# Altium footprint library WR-TBL_Spring Clamp_5.08mm.PcbLib: 47 footprints (part 2 of 3)
Each footprint in its own frame and in the unit in brackets; x right, y up, seen from the top. Pads: shape width x height; smd on the part's side, far side on the other; paste and mask are expansions set on the pad; w line width, h text height; cw(c..) or ccw(c..) is an arc to the next point about the centre after c.
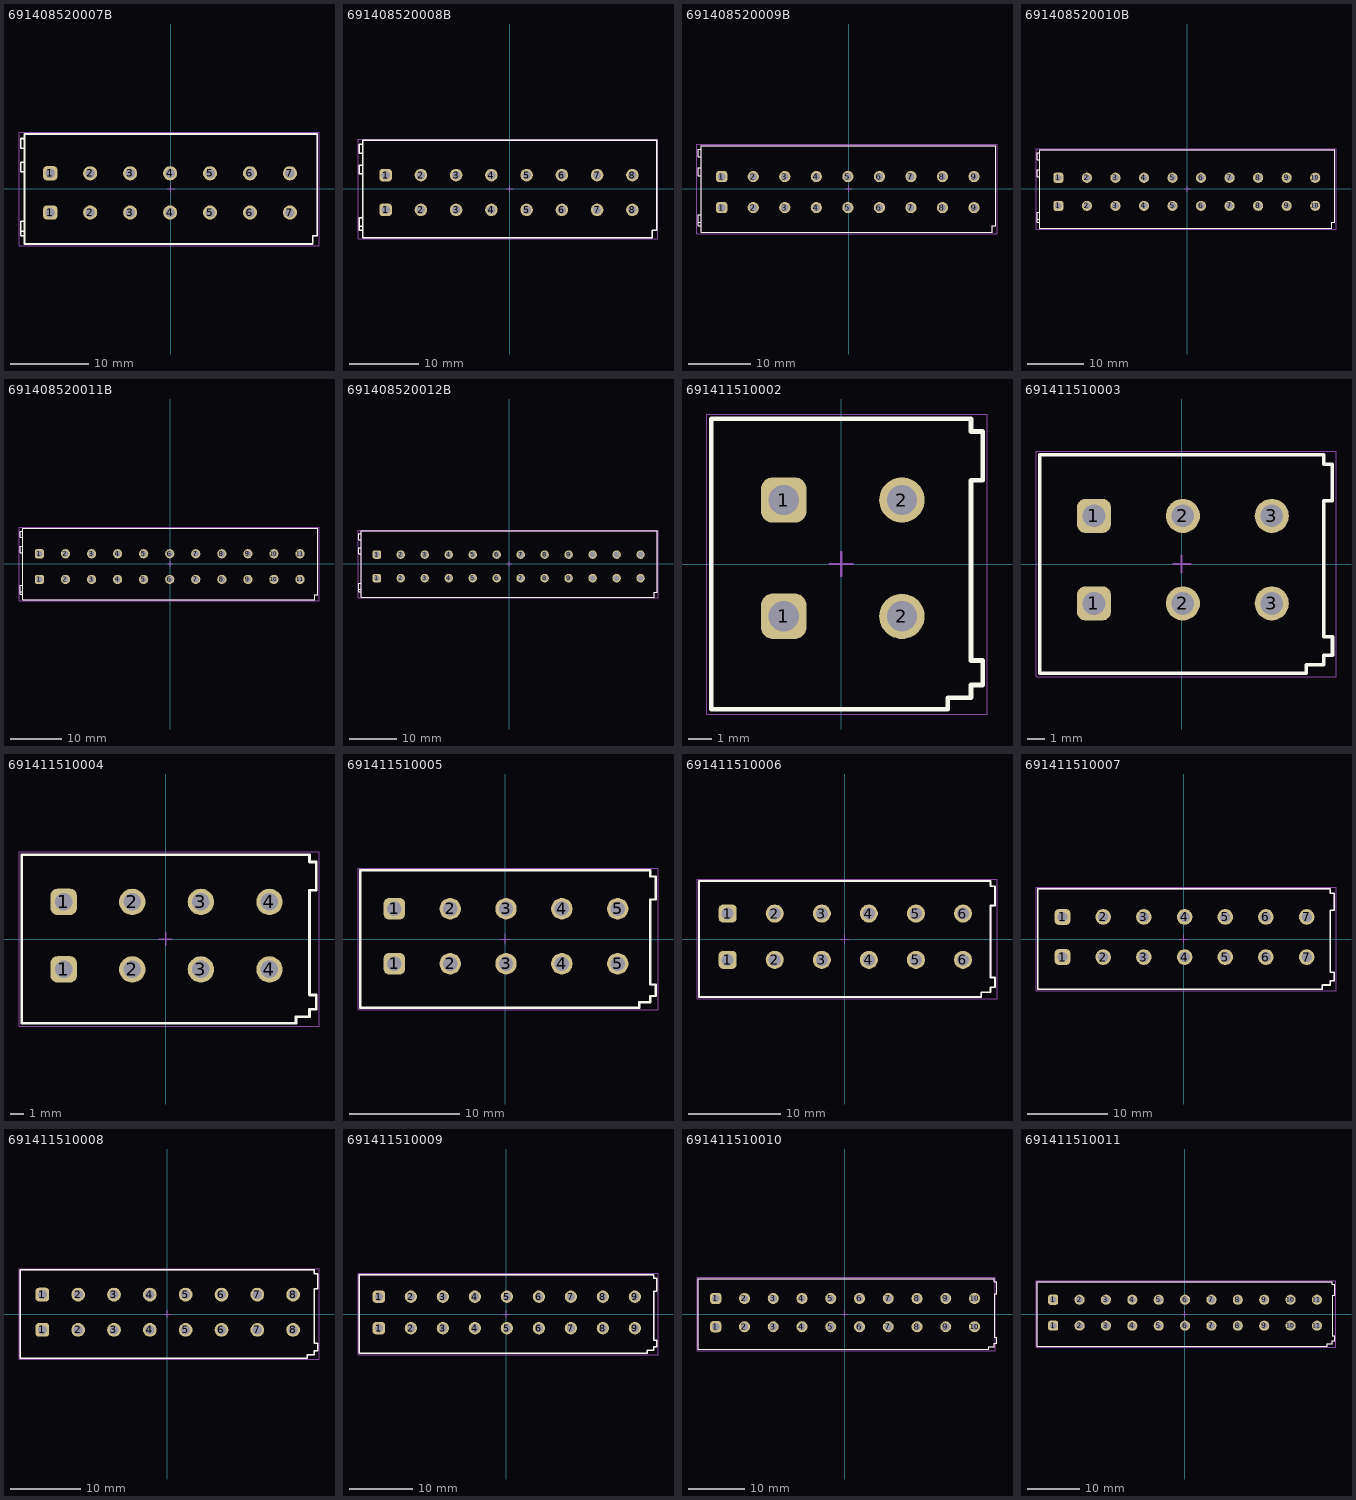
[diagram p1: the footprints below, top view; thin cyan lines are the x and y axes]

## 691408520007B [mm] "Terminal block -  Screwless Push In, 7p"
height 13.5
pads (14):
  rrect50% 1.8x1.8 hole 1.2: 1(-15.35,-3) 1(-15.35,2)
  round 1.8 hole 1.2: 2(-10.27,-3) 2(-10.27,2) 3(-5.19,-3) 3(-5.19,2) 4(-0.11,-3) 4(-0.11,2) 5(4.97,-3) 5(4.97,2) 6(10.05,-3) 6(10.05,2) 7(15.13,-3) 7(15.13,2)
Top Overlay:
  lines w0.2: -19.13,-5.37 -18.63,-5.37 ; -18.63,-5.92 -19.13,-5.92 -19.13,-4.12 -18.63,-4.12 ; -18.63,2.17 -19.13,2.17 -19.13,3.42 -18.63,3.42 ; -18.63,5.17 -19.13,5.17 -19.13,6.42 -18.63,6.42 ; -18.63,-7 -18.63,7 18.63,7 18.63,-5.95 18.03,-5.95 18.03,-7 -18.63,-7
Top Assembly:
  lines w0.1: -19.13,-5.37 -18.63,-5.37 ; -18.63,-5.92 -19.13,-5.92 -19.13,-4.12 -18.63,-4.12 ; -18.63,2.17 -19.13,2.17 -19.13,3.42 -18.63,3.42 ; -18.63,5.17 -19.13,5.17 -19.13,6.42 -18.63,6.42 ; -18.63,-7 -18.63,7 18.63,7 18.63,-5.95 18.03,-5.95 18.03,-7 -18.63,-7
Top Designator:
  text ".Designator" at -3.647,-0.357 h1
Top 3D Body:
  lines w0.1: -19.13,-5.37 -18.63,-5.37 ; -18.63,-5.92 -19.13,-5.92 -19.13,-4.12 -18.63,-4.12 ; -18.63,2.17 -19.13,2.17 -19.13,3.42 -18.63,3.42 ; -18.63,5.17 -19.13,5.17 -19.13,6.42 -18.63,6.42 ; -18.63,-7 18.03,-7 18.03,-5.95 18.63,-5.95 18.63,7 -18.63,7 -18.63,-7
Top Courtyard:
  lines w0.05: -19.33,-7.2 18.83,-7.2 18.83,7.2 -19.33,7.2 -19.33,-7.2
Top Component Center:
  lines w0.1: -0.5,0 0.5,0 ; 0,-0.5 0,0.5
3D body "691408520007B.stp": height 13.55, standoff -4.3, extent -19.03,-6.9 18.63,7.1

## 691408520008B [mm] "Terminal block -  Screwless Push In, 8p"
height 13.5
pads (16):
  rrect50% 1.8x1.8 hole 1.2: 1(-17.89,-3) 1(-17.89,2)
  round 1.8 hole 1.2: 2(-12.81,-3) 2(-12.81,2) 3(-7.73,-3) 3(-7.73,2) 4(-2.65,-3) 4(-2.65,2) 5(2.43,-3) 5(2.43,2) 6(7.51,-3) 6(7.51,2) 7(12.59,-3) 7(12.59,2) 8(17.67,-3) 8(17.67,2)
Top Overlay:
  lines w0.2: -21.67,-5.37 -21.17,-5.37 ; -21.17,-5.92 -21.67,-5.92 -21.67,-4.12 -21.17,-4.12 ; -21.17,2.17 -21.67,2.17 -21.67,3.42 -21.17,3.42 ; -21.17,5.17 -21.67,5.17 -21.67,6.42 -21.17,6.42 ; -21.17,-7 -21.17,7 21.17,7 21.17,-5.95 20.57,-5.95 20.57,-7 -21.17,-7
Top Assembly:
  lines w0.1: -21.67,-5.37 -21.17,-5.37 ; -21.17,-5.92 -21.67,-5.92 -21.67,-4.12 -21.17,-4.12 ; -21.17,2.17 -21.67,2.17 -21.67,3.42 -21.17,3.42 ; -21.17,5.17 -21.67,5.17 -21.67,6.42 -21.17,6.42 ; -21.17,-7 -21.17,7 21.17,7 21.17,-5.95 20.57,-5.95 20.57,-7 -21.17,-7
Top Designator:
  text ".Designator" at -3.647,-0.357 h1
Top 3D Body:
  lines w0.1: -21.67,-5.37 -21.17,-5.37 ; -21.17,-5.92 -21.67,-5.92 -21.67,-4.12 -21.17,-4.12 ; -21.17,2.17 -21.67,2.17 -21.67,3.42 -21.17,3.42 ; -21.17,5.17 -21.67,5.17 -21.67,6.42 -21.17,6.42 ; -21.17,-7 20.57,-7 20.57,-5.95 21.17,-5.95 21.17,7 -21.17,7 -21.17,-7
Top Courtyard:
  lines w0.05: -21.87,-7.2 21.37,-7.2 21.37,7.2 -21.87,7.2 -21.87,-7.2
Top Component Center:
  lines w0.1: -0.5,0 0.5,0 ; 0,-0.5 0,0.5
3D body "691408520008B.stp": height 13.55, standoff -4.3, extent -21.57,-6.9 21.17,7.1

## 691408520009B [mm] "Terminal block -  Screwless Push In, 9p"
height 13.5
pads (18):
  rrect50% 1.8x1.8 hole 1.2: 1(-20.43,-3) 1(-20.43,2)
  round 1.8 hole 1.2: 2(-15.35,-3) 2(-15.35,2) 3(-10.27,-3) 3(-10.27,2) 4(-5.19,-3) 4(-5.19,2) 5(-0.11,-3) 5(-0.11,2) 6(4.97,-3) 6(4.97,2) 7(10.05,-3) 7(10.05,2) 8(15.13,-3) 8(15.13,2) 9(20.21,-3) 9(20.21,2)
Top Overlay:
  lines w0.2: -24.21,-5.37 -23.71,-5.37 ; -23.71,-5.92 -24.21,-5.92 -24.21,-4.12 -23.71,-4.12 ; -23.71,2.17 -24.21,2.17 -24.21,3.42 -23.71,3.42 ; -23.71,5.17 -24.21,5.17 -24.21,6.42 -23.71,6.42 ; -23.71,-7 -23.71,7 23.71,7 23.71,-5.95 23.11,-5.95 23.11,-7 -23.71,-7
Top Assembly:
  lines w0.1: -24.21,-5.37 -23.71,-5.37 ; -23.71,-5.92 -24.21,-5.92 -24.21,-4.12 -23.71,-4.12 ; -23.71,2.17 -24.21,2.17 -24.21,3.42 -23.71,3.42 ; -23.71,5.17 -24.21,5.17 -24.21,6.42 -23.71,6.42 ; -23.71,-7 -23.71,7 23.71,7 23.71,-5.95 23.11,-5.95 23.11,-7 -23.71,-7
Top Designator:
  text ".Designator" at -3.647,-0.357 h1
Top 3D Body:
  lines w0.1: -24.21,-5.37 -23.71,-5.37 ; -23.71,-5.92 -24.21,-5.92 -24.21,-4.12 -23.71,-4.12 ; -23.71,2.17 -24.21,2.17 -24.21,3.42 -23.71,3.42 ; -23.71,5.17 -24.21,5.17 -24.21,6.42 -23.71,6.42 ; -23.71,-7 23.11,-7 23.11,-5.95 23.71,-5.95 23.71,7 -23.71,7 -23.71,-7
Top Courtyard:
  lines w0.05: -24.41,-7.2 23.91,-7.2 23.91,7.2 -24.41,7.2 -24.41,-7.2
Top Component Center:
  lines w0.1: -0.5,0 0.5,0 ; 0,-0.5 0,0.5
3D body "691408520009B.stp": height 13.55, standoff -4.3, extent -24.11,-6.9 23.71,7.1

## 691408520010B [mm] "Terminal block -  Screwless Push In, 10p"
height 13.5
pads (20):
  rrect50% 1.8x1.8 hole 1.2: 1(-22.97,-3) 1(-22.97,2)
  round 1.8 hole 1.2: 2(-17.89,-3) 2(-17.89,2) 3(-12.81,-3) 3(-12.81,2) 4(-7.73,-3) 4(-7.73,2) 5(-2.65,-3) 5(-2.65,2) 6(2.43,-3) 6(2.43,2) 7(7.51,-3) 7(7.51,2) 8(12.59,-3) 8(12.59,2) 9(17.67,-3) 9(17.67,2) 10(22.75,-3) 10(22.75,2)
Top Overlay:
  lines w0.2: -26.75,-5.37 -26.25,-5.37 ; -26.25,-5.92 -26.75,-5.92 -26.75,-4.12 -26.25,-4.12 ; -26.25,2.17 -26.75,2.17 -26.75,3.42 -26.25,3.42 ; -26.25,5.17 -26.75,5.17 -26.75,6.42 -26.25,6.42 ; -26.25,-7 25.65,-7 25.65,-5.95 26.25,-5.95 26.25,7 -26.25,7 -26.25,-7
Top Assembly:
  lines w0.1: -26.75,-5.37 -26.25,-5.37 ; -26.25,-5.92 -26.75,-5.92 -26.75,-4.12 -26.25,-4.12 ; -26.25,2.17 -26.75,2.17 -26.75,3.42 -26.25,3.42 ; -26.25,5.17 -26.75,5.17 -26.75,6.42 -26.25,6.42 ; -26.25,-7 25.65,-7 25.65,-5.95 26.25,-5.95 26.25,7 -26.25,7 -26.25,-7
Top Designator:
  text ".Designator" at -3.647,-0.357 h1
Top 3D Body:
  lines w0.1: -26.75,-5.37 -26.25,-5.37 ; -26.25,-5.92 -26.75,-5.92 -26.75,-4.12 -26.25,-4.12 ; -26.25,2.17 -26.75,2.17 -26.75,3.42 -26.25,3.42 ; -26.25,5.17 -26.75,5.17 -26.75,6.42 -26.25,6.42 ; -26.25,-7 -26.25,7 26.25,7 26.25,-5.95 25.65,-5.95 25.65,-7 -26.25,-7
Top Courtyard:
  lines w0.05: -26.95,-7.2 -26.95,7.2 26.45,7.2 26.45,-7.2 -26.95,-7.2
Top Component Center:
  lines w0.1: -0.5,0 0.5,0 ; 0,-0.5 0,0.5
3D body "691408520010B.stp": height 13.55, standoff -4.3, extent -26.65,-6.9 26.25,7.1

## 691408520011B [mm] "Terminal block -  Screwless Push In, 11p"
height 13.5
pads (22):
  rrect50% 1.8x1.8 hole 1.2: 1(-25.51,-3) 1(-25.51,2)
  round 1.8 hole 1.2: 2(-20.43,-3) 2(-20.43,2) 3(-15.35,-3) 3(-15.35,2) 4(-10.27,-3) 4(-10.27,2) 5(-5.19,-3) 5(-5.19,2) 6(-0.11,-3) 6(-0.11,2) 7(4.97,-3) 7(4.97,2) 8(10.05,-3) 8(10.05,2) 9(15.13,-3) 9(15.13,2) 10(20.21,-3) 10(20.21,2) 11(25.29,-3) 11(25.29,2)
Top Overlay:
  lines w0.2: -29.29,-5.37 -28.79,-5.37 ; -28.79,-5.92 -29.29,-5.92 -29.29,-4.12 -28.79,-4.12 ; -28.79,2.17 -29.29,2.17 -29.29,3.42 -28.79,3.42 ; -28.79,5.17 -29.29,5.17 -29.29,6.42 -28.79,6.42 ; -28.79,-7 -28.79,7 28.79,7 28.79,-5.95 28.19,-5.95 28.19,-7 -28.79,-7
Top Assembly:
  lines w0.1: -29.29,-5.37 -28.79,-5.37 ; -28.79,-5.92 -29.29,-5.92 -29.29,-4.12 -28.79,-4.12 ; -28.79,2.17 -29.29,2.17 -29.29,3.42 -28.79,3.42 ; -28.79,5.17 -29.29,5.17 -29.29,6.42 -28.79,6.42 ; -28.79,-7 -28.79,7 28.79,7 28.79,-5.95 28.19,-5.95 28.19,-7 -28.79,-7
Top Designator:
  text ".Designator" at -3.647,-0.357 h1
Top 3D Body:
  lines w0.1: -29.29,-5.37 -28.79,-5.37 ; -28.79,-5.92 -29.29,-5.92 -29.29,-4.12 -28.79,-4.12 ; -28.79,2.17 -29.29,2.17 -29.29,3.42 -28.79,3.42 ; -28.79,5.17 -29.29,5.17 -29.29,6.42 -28.79,6.42 ; -28.79,-7 28.19,-7 28.19,-5.95 28.79,-5.95 28.79,7 -28.79,7 -28.79,-7
Top Courtyard:
  lines w0.05: -29.49,-7.2 28.99,-7.2 28.99,7.2 -29.49,7.2 -29.49,-7.2
Top Component Center:
  lines w0.1: -0.5,0 0.5,0 ; 0,-0.5 0,0.5
3D body "691408520011B.stp": height 13.55, standoff -4.3, extent -29.19,-6.9 28.79,7.1

## 691408520012B [mm] "Terminal block -  Screwless Push In, 12p"
height 13.5
pads (24):
  rrect50% 1.8x1.8 hole 1.2: 1(-28.05,-3) 1(-28.05,2)
  round 1.8 hole 1.2: 2(-22.97,-3) 2(-22.97,2) 3(-17.89,-3) 3(-17.89,2) 4(-12.81,-3) 4(-12.81,2) 5(-7.73,-3) 5(-7.73,2) 6(-2.65,-3) 6(-2.65,2) 7(2.43,-3) 7(2.43,2) 8(7.51,-3) 8(7.51,2) 9(12.59,-3) 9(12.59,2) 10(17.67,-3) 10(17.67,2) 11(22.75,-3) 11(22.75,2) 12(27.83,-3) 12(27.83,2)
Top Overlay:
  lines w0.2: -31.83,-5.37 -31.33,-5.37 ; -31.33,-5.92 -31.83,-5.92 -31.83,-4.12 -31.33,-4.12 ; -31.33,2.17 -31.83,2.17 -31.83,3.42 -31.33,3.42 ; -31.33,5.17 -31.83,5.17 -31.83,6.42 -31.33,6.42 ; -31.33,-7 -31.33,7 31.33,7 31.33,-5.95 30.73,-5.95 30.73,-7 -31.33,-7
Top Assembly:
  lines w0.1: -31.83,-5.37 -31.33,-5.37 ; -31.33,-5.92 -31.83,-5.92 -31.83,-4.12 -31.33,-4.12 ; -31.33,2.17 -31.83,2.17 -31.83,3.42 -31.33,3.42 ; -31.33,5.17 -31.83,5.17 -31.83,6.42 -31.33,6.42 ; -31.33,-7 -31.33,7 31.33,7 31.33,-5.95 30.73,-5.95 30.73,-7 -31.33,-7
Top Designator:
  text ".Designator" at -3.647,-0.357 h1
Top 3D Body:
  lines w0.1: -31.83,-5.37 -31.33,-5.37 ; -31.33,-5.92 -31.83,-5.92 -31.83,-4.12 -31.33,-4.12 ; -31.33,2.17 -31.83,2.17 -31.83,3.42 -31.33,3.42 ; -31.33,5.17 -31.83,5.17 -31.83,6.42 -31.33,6.42 ; -31.33,-7 30.73,-7 30.73,-5.95 31.33,-5.95 31.33,7 -31.33,7 -31.33,-7
Top Courtyard:
  lines w0.05: -32.03,-7.2 31.53,-7.2 31.53,7.2 -32.03,7.2 -32.03,-7.2
Top Component Center:
  lines w0.1: -0.5,0 0.5,0 ; 0,-0.5 0,0.5
3D body "691408520012B.stp": height 13.55, standoff -4.3, extent -31.73,-6.9 31.33,7.1

## 691411510002 [mm] "5.08 mm Screwless Horizontal Entry, 2p"
height 13.9
pads (4):
  rrect50% 1.95x1.95 hole 1.3: 1(-2.47,-2.25) 1(-2.47,2.75)
  round 1.95 hole 1.3: 2(2.61,-2.25) 2(2.61,2.75)
Top Overlay:
  lines w0.2: -5.58,-6.25 -5.58,6.25 5.58,6.25 5.58,5.7 6.08,5.7 6.08,3.6 5.58,3.6 5.58,-4.15 6.08,-4.15 6.08,-5.2 5.58,-5.2 5.58,-5.75 4.58,-5.75 4.58,-6.25 -5.58,-6.25
Top Assembly:
  lines w0.1: -5.58,-6.25 4.58,-6.25 4.58,-5.75 5.58,-5.75 5.58,-5.2 6.08,-5.2 6.08,-4.15 5.58,-4.15 5.58,3.6 6.08,3.6 6.08,5.7 5.58,5.7 5.58,6.25 -5.58,6.25 -5.58,-6.25
Top Designator:
  text ".Designator" at -3.647,-0.357 h1
Top 3D Body:
  lines w0.1: -5.58,-6.25 -5.58,6.25 5.58,6.25 5.58,5.7 6.08,5.7 6.08,3.6 5.58,3.6 5.58,-4.15 6.08,-4.15 6.08,-5.2 5.58,-5.2 5.58,-5.75 4.58,-5.75 4.58,-6.25 -5.58,-6.25
Top Courtyard:
  lines w0.05: -5.78,-6.45 6.28,-6.45 6.28,6.45 -5.78,6.45 -5.78,-6.45
Top Component Center:
  lines w0.1: -0.5,0 0.5,0 ; 0,-0.5 0,0.5
3D body "691411510002.stp": height 13.95, standoff -3.55, extent -5.58,-6.25 6.08,6.25

## 691411510003 [mm] "5.08 mm Screwless Horizontal Entry, 3p"
height 13.9
pads (6):
  rrect50% 1.95x1.95 hole 1.3: 1(-5.01,-2.25) 1(-5.01,2.75)
  round 1.95 hole 1.3: 2(0.07,-2.25) 2(0.07,2.75) 3(5.15,-2.25) 3(5.15,2.75)
Top Overlay:
  lines w0.2: -8.12,-6.25 7.12,-6.25 7.12,-5.75 8.12,-5.75 8.12,-5.2 8.62,-5.2 8.62,-4.15 8.12,-4.15 8.12,3.6 8.62,3.6 8.62,5.7 8.12,5.7 8.12,6.25 -8.12,6.25 -8.12,-6.25
Top Assembly:
  lines w0.1: -8.12,-6.25 -8.12,6.25 8.12,6.25 8.12,5.7 8.62,5.7 8.62,3.6 8.12,3.6 8.12,-4.15 8.62,-4.15 8.62,-5.2 8.12,-5.2 8.12,-5.75 7.12,-5.75 7.12,-6.25 -8.12,-6.25
Top Designator:
  text ".Designator" at -3.647,-0.357 h1
Top 3D Body:
  lines w0.1: -8.12,-6.25 7.12,-6.25 7.12,-5.75 8.12,-5.75 8.12,-5.2 8.62,-5.2 8.62,-4.15 8.12,-4.15 8.12,3.6 8.62,3.6 8.62,5.7 8.12,5.7 8.12,6.25 -8.12,6.25 -8.12,-6.25
Top Courtyard:
  lines w0.05: -8.32,-6.45 -8.32,6.45 8.82,6.45 8.82,-6.45 -8.32,-6.45
Top Component Center:
  lines w0.1: -0.5,0 0.5,0 ; 0,-0.5 0,0.5
3D body "691411510003.stp": height 13.95, standoff -3.55, extent -8.12,-6.25 8.62,6.25

## 691411510004 [mm] "5.08 mm Screwless Horizontal Entry, 4p"
height 13.9
pads (8):
  rrect50% 1.95x1.95 hole 1.3: 1(-7.55,-2.25) 1(-7.55,2.75)
  round 1.95 hole 1.3: 2(-2.47,-2.25) 2(-2.47,2.75) 3(2.61,-2.25) 3(2.61,2.75) 4(7.69,-2.25) 4(7.69,2.75)
Top Overlay:
  lines w0.2: -10.66,-6.25 9.66,-6.25 9.66,-5.75 10.66,-5.75 10.66,-5.2 11.16,-5.2 11.16,-4.15 10.66,-4.15 10.66,3.6 11.16,3.6 11.16,5.7 10.66,5.7 10.66,6.25 -10.66,6.25 -10.66,-6.25
Top Assembly:
  lines w0.1: -10.66,-6.25 -10.66,6.25 10.66,6.25 10.66,5.7 11.16,5.7 11.16,3.6 10.66,3.6 10.66,-4.15 11.16,-4.15 11.16,-5.2 10.66,-5.2 10.66,-5.75 9.66,-5.75 9.66,-6.25 -10.66,-6.25
Top Designator:
  text ".Designator" at -3.647,-0.357 h1
Top 3D Body:
  lines w0.1: -10.66,-6.25 9.66,-6.25 9.66,-5.75 10.66,-5.75 10.66,-5.2 11.16,-5.2 11.16,-4.15 10.66,-4.15 10.66,3.6 11.16,3.6 11.16,5.7 10.66,5.7 10.66,6.25 -10.66,6.25 -10.66,-6.25
Top Courtyard:
  lines w0.05: -10.86,-6.45 -10.86,6.45 11.36,6.45 11.36,-6.45 -10.86,-6.45
Top Component Center:
  lines w0.1: -0.5,0 0.5,0 ; 0,-0.5 0,0.5
3D body "691411510004.stp": height 13.95, standoff -3.55, extent -10.66,-6.25 11.16,6.25

## 691411510005 [mm] "5.08 mm Screwless Horizontal Entry, 5p"
height 13.9
pads (10):
  rrect50% 1.95x1.95 hole 1.3: 1(-10.09,-2.25) 1(-10.09,2.75)
  round 1.95 hole 1.3: 2(-5.01,-2.25) 2(-5.01,2.75) 3(0.07,-2.25) 3(0.07,2.75) 4(5.15,-2.25) 4(5.15,2.75) 5(10.23,-2.25) 5(10.23,2.75)
Top Overlay:
  lines w0.2: -13.2,-6.25 -13.2,6.25 13.2,6.25 13.2,5.7 13.7,5.7 13.7,3.6 13.2,3.6 13.2,-4.15 13.7,-4.15 13.7,-5.2 13.2,-5.2 13.2,-5.75 12.2,-5.75 12.2,-6.25 -13.2,-6.25
Top Assembly:
  lines w0.1: -13.2,-6.25 12.2,-6.25 12.2,-5.75 13.2,-5.75 13.2,-5.2 13.7,-5.2 13.7,-4.15 13.2,-4.15 13.2,3.6 13.7,3.6 13.7,5.7 13.2,5.7 13.2,6.25 -13.2,6.25 -13.2,-6.25
Top Designator:
  text ".Designator" at -3.647,-0.357 h1
Top 3D Body:
  lines w0.1: -13.2,-6.25 -13.2,6.25 13.2,6.25 13.2,5.7 13.7,5.7 13.7,3.6 13.2,3.6 13.2,-4.15 13.7,-4.15 13.7,-5.2 13.2,-5.2 13.2,-5.75 12.2,-5.75 12.2,-6.25 -13.2,-6.25
Top Courtyard:
  lines w0.05: -13.4,-6.45 13.9,-6.45 13.9,6.45 -13.4,6.45 -13.4,-6.45
Top Component Center:
  lines w0.1: -0.5,0 0.5,0 ; 0,-0.5 0,0.5
3D body "691411510005.stp": height 13.95, standoff -3.55, extent -13.2,-6.25 13.7,6.25

## 691411510006 [mm] "5.08 mm Screwless Horizontal Entry, 6p"
height 13.9
pads (12):
  rrect50% 1.95x1.95 hole 1.3: 1(-12.63,-2.25) 1(-12.63,2.75)
  round 1.95 hole 1.3: 2(-7.55,-2.25) 2(-7.55,2.75) 3(-2.47,-2.25) 3(-2.47,2.75) 4(2.61,-2.25) 4(2.61,2.75) 5(7.69,-2.25) 5(7.69,2.75) 6(12.77,-2.25) 6(12.77,2.75)
Top Overlay:
  lines w0.2: -15.74,-6.25 -15.74,6.25 15.74,6.25 15.74,5.7 16.24,5.7 16.24,3.6 15.74,3.6 15.74,-4.15 16.24,-4.15 16.24,-5.2 15.74,-5.2 15.74,-5.75 14.74,-5.75 14.74,-6.25 -15.74,-6.25
Top Assembly:
  lines w0.1: -15.74,-6.25 14.74,-6.25 14.74,-5.75 15.74,-5.75 15.74,-5.2 16.24,-5.2 16.24,-4.15 15.74,-4.15 15.74,3.6 16.24,3.6 16.24,5.7 15.74,5.7 15.74,6.25 -15.74,6.25 -15.74,-6.25
Top Designator:
  text ".Designator" at -3.647,-0.357 h1
Top 3D Body:
  lines w0.1: -15.74,-6.25 -15.74,6.25 15.74,6.25 15.74,5.7 16.24,5.7 16.24,3.6 15.74,3.6 15.74,-4.15 16.24,-4.15 16.24,-5.2 15.74,-5.2 15.74,-5.75 14.74,-5.75 14.74,-6.25 -15.74,-6.25
Top Courtyard:
  lines w0.05: -15.94,-6.45 16.44,-6.45 16.44,6.45 -15.94,6.45 -15.94,-6.45
Top Component Center:
  lines w0.1: -0.5,0 0.5,0 ; 0,-0.5 0,0.5
3D body "691411510006.stp": height 13.95, standoff -3.55, extent -15.74,-6.25 16.24,6.25

## 691411510007 [mm] "5.08 mm Screwless Horizontal Entry, 7p"
height 13.9
pads (14):
  rrect50% 1.95x1.95 hole 1.3: 1(-15.17,-2.25) 1(-15.17,2.75)
  round 1.95 hole 1.3: 2(-10.09,-2.25) 2(-10.09,2.75) 3(-5.01,-2.25) 3(-5.01,2.75) 4(0.07,-2.25) 4(0.07,2.75) 5(5.15,-2.25) 5(5.15,2.75) 6(10.23,-2.25) 6(10.23,2.75) 7(15.31,-2.25) 7(15.31,2.75)
Top Overlay:
  lines w0.2: -18.28,-6.25 -18.28,6.25 18.28,6.25 18.28,5.7 18.78,5.7 18.78,3.6 18.28,3.6 18.28,-4.15 18.78,-4.15 18.78,-5.2 18.28,-5.2 18.28,-5.75 17.28,-5.75 17.28,-6.25 -18.28,-6.25
Top Assembly:
  lines w0.1: -18.28,-6.25 17.28,-6.25 17.28,-5.75 18.28,-5.75 18.28,-5.2 18.78,-5.2 18.78,-4.15 18.28,-4.15 18.28,3.6 18.78,3.6 18.78,5.7 18.28,5.7 18.28,6.25 -18.28,6.25 -18.28,-6.25
Top Designator:
  text ".Designator" at -3.647,-0.357 h1
Top 3D Body:
  lines w0.1: -18.28,-6.25 -18.28,6.25 18.28,6.25 18.28,5.7 18.78,5.7 18.78,3.6 18.28,3.6 18.28,-4.15 18.78,-4.15 18.78,-5.2 18.28,-5.2 18.28,-5.75 17.28,-5.75 17.28,-6.25 -18.28,-6.25
Top Courtyard:
  lines w0.05: -18.48,-6.45 18.98,-6.45 18.98,6.45 -18.48,6.45 -18.48,-6.45
Top Component Center:
  lines w0.1: -0.5,0 0.5,0 ; 0,-0.5 0,0.5
3D body "691411510007.stp": height 13.95, standoff -3.55, extent -18.28,-6.25 18.78,6.25

## 691411510008 [mm] "5.08 mm Screwless Horizontal Entry, 8p"
height 13.9
pads (16):
  rrect50% 1.95x1.95 hole 1.3: 1(-17.71,-2.25) 1(-17.71,2.75)
  round 1.95 hole 1.3: 2(-12.63,-2.25) 2(-12.63,2.75) 3(-7.55,-2.25) 3(-7.55,2.75) 4(-2.47,-2.25) 4(-2.47,2.75) 5(2.61,-2.25) 5(2.61,2.75) 6(7.69,-2.25) 6(7.69,2.75) 7(12.77,-2.25) 7(12.77,2.75) 8(17.85,-2.25) 8(17.85,2.75)
Top Overlay:
  lines w0.2: -20.82,-6.25 -20.82,6.25 20.82,6.25 20.82,5.7 21.32,5.7 21.32,3.6 20.82,3.6 20.82,-4.15 21.32,-4.15 21.32,-5.2 20.82,-5.2 20.82,-5.75 19.82,-5.75 19.82,-6.25 -20.82,-6.25
Top Assembly:
  lines w0.1: -20.82,-6.25 19.82,-6.25 19.82,-5.75 20.82,-5.75 20.82,-5.2 21.32,-5.2 21.32,-4.15 20.82,-4.15 20.82,3.6 21.32,3.6 21.32,5.7 20.82,5.7 20.82,6.25 -20.82,6.25 -20.82,-6.25
Top Designator:
  text ".Designator" at -3.647,-0.357 h1
Top 3D Body:
  lines w0.1: -20.82,-6.25 -20.82,6.25 20.82,6.25 20.82,5.7 21.32,5.7 21.32,3.6 20.82,3.6 20.82,-4.15 21.32,-4.15 21.32,-5.2 20.82,-5.2 20.82,-5.75 19.82,-5.75 19.82,-6.25 -20.82,-6.25
Top Courtyard:
  lines w0.05: -21.02,-6.45 21.52,-6.45 21.52,6.45 -21.02,6.45 -21.02,-6.45
Top Component Center:
  lines w0.1: -0.5,0 0.5,0 ; 0,-0.5 0,0.5
3D body "691411510008.stp": height 13.95, standoff -3.55, extent -20.82,-6.25 21.32,6.25

## 691411510009 [mm] "5.08 mm Screwless Horizontal Entry, 9p"
height 13.9
pads (18):
  rrect50% 1.95x1.95 hole 1.3: 1(-20.25,-2.25) 1(-20.25,2.75)
  round 1.95 hole 1.3: 2(-15.17,-2.25) 2(-15.17,2.75) 3(-10.09,-2.25) 3(-10.09,2.75) 4(-5.01,-2.25) 4(-5.01,2.75) 5(0.07,-2.25) 5(0.07,2.75) 6(5.15,-2.25) 6(5.15,2.75) 7(10.23,-2.25) 7(10.23,2.75) 8(15.31,-2.25) 8(15.31,2.75) 9(20.39,-2.25) 9(20.39,2.75)
Top Overlay:
  lines w0.2: -23.36,-6.25 -23.36,6.25 23.36,6.25 23.36,5.7 23.86,5.7 23.86,3.6 23.36,3.6 23.36,-4.15 23.86,-4.15 23.86,-5.2 23.36,-5.2 23.36,-5.75 22.36,-5.75 22.36,-6.25 -23.36,-6.25
Top Assembly:
  lines w0.1: -23.36,-6.25 22.36,-6.25 22.36,-5.75 23.36,-5.75 23.36,-5.2 23.86,-5.2 23.86,-4.15 23.36,-4.15 23.36,3.6 23.86,3.6 23.86,5.7 23.36,5.7 23.36,6.25 -23.36,6.25 -23.36,-6.25
Top Designator:
  text ".Designator" at -3.647,-0.357 h1
Top 3D Body:
  lines w0.1: -23.36,-6.25 -23.36,6.25 23.36,6.25 23.36,5.7 23.86,5.7 23.86,3.6 23.36,3.6 23.36,-4.15 23.86,-4.15 23.86,-5.2 23.36,-5.2 23.36,-5.75 22.36,-5.75 22.36,-6.25 -23.36,-6.25
Top Courtyard:
  lines w0.05: -23.56,-6.45 24.06,-6.45 24.06,6.45 -23.56,6.45 -23.56,-6.45
Top Component Center:
  lines w0.1: -0.5,0 0.5,0 ; 0,-0.5 0,0.5
3D body "691411510009.stp": height 13.95, standoff -3.55, extent -23.36,-6.25 23.86,6.25

## 691411510010 [mm] "5.08 mm Screwless Horizontal Entry, 10p"
height 13.9
pads (20):
  rrect50% 1.95x1.95 hole 1.3: 1(-22.79,-2.25) 1(-22.79,2.75)
  round 1.95 hole 1.3: 2(-17.71,-2.25) 2(-17.71,2.75) 3(-12.63,-2.25) 3(-12.63,2.75) 4(-7.55,-2.25) 4(-7.55,2.75) 5(-2.47,-2.25) 5(-2.47,2.75) 6(2.61,-2.25) 6(2.61,2.75) 7(7.69,-2.25) 7(7.69,2.75) 8(12.77,-2.25) 8(12.77,2.75) 9(17.85,-2.25) 9(17.85,2.75) 10(22.93,-2.25) 10(22.93,2.75)
Top Overlay:
  lines w0.2: -25.9,-6.25 -25.9,6.25 26.4,6.25 26.4,5.7 26.9,5.7 26.9,3.6 26.4,3.6 26.4,-4.15 26.9,-4.15 26.9,-5.2 26.4,-5.2 26.4,-5.75 25.4,-5.75 25.4,-6.25 -25.9,-6.25
Top Assembly:
  lines w0.1: -25.9,-6.25 25.4,-6.25 25.4,-5.75 26.4,-5.75 26.4,-5.2 26.9,-5.2 26.9,-4.15 26.4,-4.15 26.4,3.6 26.9,3.6 26.9,5.7 26.4,5.7 26.4,6.25 -25.9,6.25 -25.9,-6.25
Top Designator:
  text ".Designator" at -3.647,-0.357 h1
Top 3D Body:
  lines w0.1: -25.9,-6.25 -25.9,6.25 26.4,6.25 26.4,5.7 26.9,5.7 26.9,3.6 26.4,3.6 26.4,-4.15 26.9,-4.15 26.9,-5.2 26.4,-5.2 26.4,-5.75 25.4,-5.75 25.4,-6.25 -25.9,-6.25
Top Courtyard:
  lines w0.05: -26.1,-6.45 26.6,-6.45 26.6,6.45 -26.1,6.45 -26.1,-6.45
Top Component Center:
  lines w0.1: -0.5,0 0.5,0 ; 0,-0.5 0,0.5
3D body "691411510010.stp": height 13.95, standoff -3.55, extent -25.9,-6.25 26.4,6.25

## 691411510011 [mm] "5.08 mm Screwless Horizontal Entry, 11p"
height 13.9
pads (22):
  rrect50% 1.95x1.95 hole 1.3: 1(-25.33,-2.25) 1(-25.33,2.75)
  round 1.95 hole 1.3: 2(-20.25,-2.25) 2(-20.25,2.75) 3(-15.17,-2.25) 3(-15.17,2.75) 4(-10.09,-2.25) 4(-10.09,2.75) 5(-5.01,-2.25) 5(-5.01,2.75) 6(0.07,-2.25) 6(0.07,2.75) 7(5.15,-2.25) 7(5.15,2.75) 8(10.23,-2.25) 8(10.23,2.75) 9(15.31,-2.25) 9(15.31,2.75) 10(20.39,-2.25) 10(20.39,2.75) 11(25.47,-2.25) 11(25.47,2.75)
Top Overlay:
  lines w0.2: -28.44,-6.25 27.44,-6.25 27.44,-5.75 28.44,-5.75 28.44,-5.2 28.94,-5.2 28.94,-4.15 28.44,-4.15 28.44,3.6 28.94,3.6 28.94,5.7 28.44,5.7 28.44,6.25 -28.44,6.25 -28.44,-6.25
Top Assembly:
  lines w0.1: -28.44,-6.25 -28.44,6.25 28.44,6.25 28.44,5.7 28.94,5.7 28.94,3.6 28.44,3.6 28.44,-4.15 28.94,-4.15 28.94,-5.2 28.44,-5.2 28.44,-5.75 27.44,-5.75 27.44,-6.25 -28.44,-6.25
Top Designator:
  text ".Designator" at -3.647,-0.357 h1
Top 3D Body:
  lines w0.1: -28.44,-6.25 27.44,-6.25 27.44,-5.75 28.44,-5.75 28.44,-5.2 28.94,-5.2 28.94,-4.15 28.44,-4.15 28.44,3.6 28.94,3.6 28.94,5.7 28.44,5.7 28.44,6.25 -28.44,6.25 -28.44,-6.25
Top Courtyard:
  lines w0.05: -28.64,-6.45 -28.64,6.45 29.14,6.45 29.14,-6.45 -28.64,-6.45
Top Component Center:
  lines w0.1: -0.5,0 0.5,0 ; 0,-0.5 0,0.5
3D body "691411510011.stp": height 13.95, standoff -3.55, extent -28.44,-6.25 28.94,6.25